# Altium footprint library Diodes_imp.PcbLib: 57 footprints (part 2 of 4)
Each footprint in its own frame and in the unit in brackets; x right, y up, seen from the top. Pads: shape width x height; smd on the part's side, far side on the other; paste and mask are expansions set on the pad; w line width, h text height; cw(c..) or ccw(c..) is an arc to the next point about the centre after c.
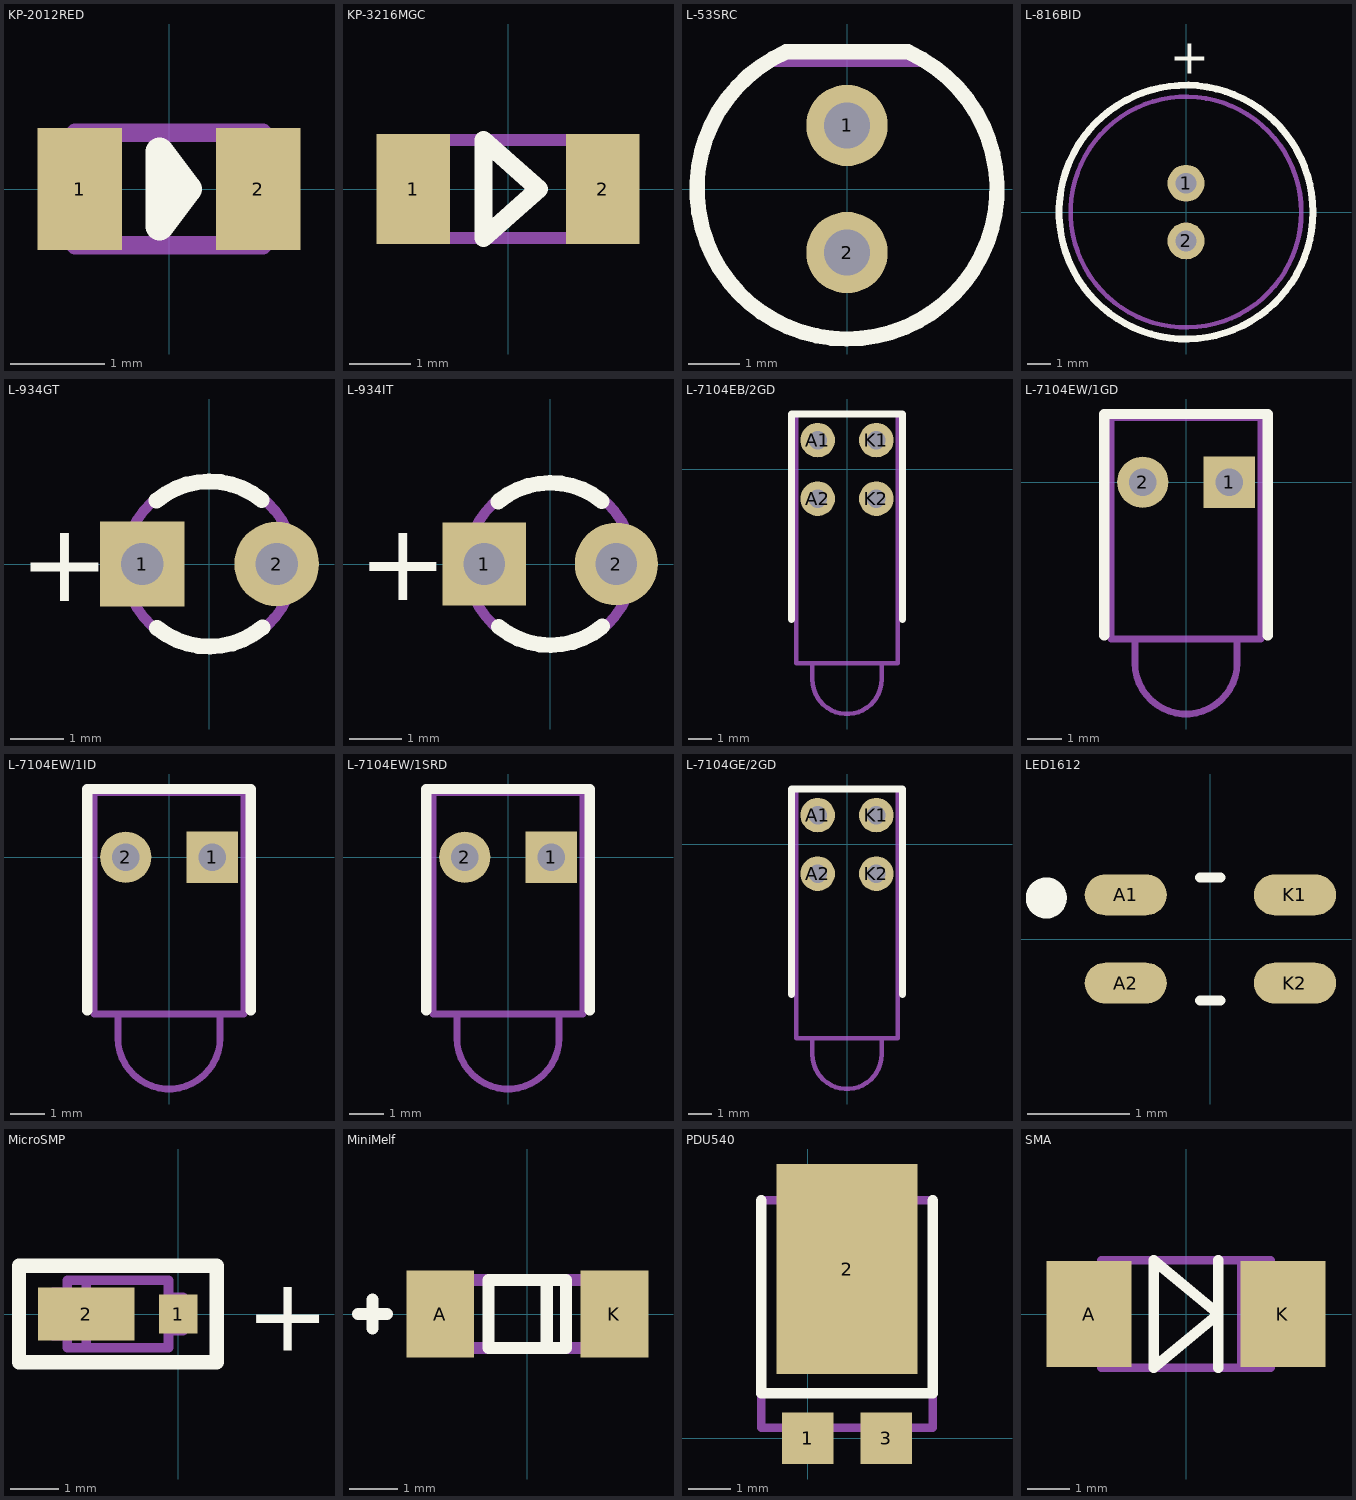
[diagram p1: the footprints below, top view; thin cyan lines are the x and y axes]

## KP-2012RED [mm]
height 1.1
pads (2):
  rect 0.9x1.3 smd: 1(-0.95,0) 2(0.95,0)
Top Overlay:
  lines w0.3: -0.1,-0.4 -0.1,0.4 0.2,0 -0.1,-0.4
Mechanical 1:
  lines w0.2: -1,-0.6 1,-0.6 1,0.6 -1,0.6 -1,-0.6
  text ".Designator" at -0.7,1.1 h1.5
  text "+" at -2.1,-0.4 h1.5
3D body "KP-2012SRC-PRV.stp": height 1, standoff 0, extent -1,-0.625 1,0.625

## KP-3216MGC [mm]
height 1.1
pads (2):
  rect 1.2x1.8 smd: 1(-1.55,0) 2(1.55,0)
Top Overlay:
  lines w0.3: -0.4,-0.8 -0.4,0.8 0.5,0 -0.4,-0.8
Mechanical 1:
  lines w0.2: -1.6,-0.8 -1.6,0.8 1.6,0.8 1.6,-0.8 -1.6,-0.8
  text "+" at -2.7,-0.4 h1.5
  text ".Designator" at -1.1,1.4 h1.5
3D body "KP-3216MGC.stp": height 1, standoff 0, extent -1.6,-0.8 1.6,0.8

## L-53SRC [mm]
height 11
pads (2):
  round 1.6 hole 0.9 unplated: 1(0,1.25) 2(0,-1.25)
Top Overlay:
  lines w0.3: -1.2,2.7 1.2,2.7 ; -1.198,2.696 ccw(c0,0) 1.217,2.687
Mechanical 1:
  lines w0.2: -1.608,2.473 ccw(c0,0) 1.608,2.473 ; -1.608,2.5 1.608,2.5
  text "+" at -0.4,-1.7 h1.5
  text ".Designator" at -3.2,3.55 h1.5
3D body "L-53SRC.stp": height 11.2, standoff -3, extent -2.949,-2.95 2.949,2.5

## L-816BID [mm]
height 16
pads (2):
  round 1.6 hole 0.9 unplated: 1(0,1.25) 2(0,-1.25)
Top Overlay:
  circle w0.3: c0,0 r5.5
  text "+" at -0.7,6 h1.5
Mechanical 1:
  circle w0.2: c0,0 r5
  circle w0.2: c0,0 r5.5
  text ".Designator" at -1.65,2.05 h1.5
  text "+" at -0.4,-1.7 h1.5
3D body "L-816BID.stp": height 16, standoff -3, extent -5.457,-5.489 5.5,5.489

## L-934GT [mm]
height 7.2
pads (2):
  rect 1.6x1.6 hole 0.8: 1(-1.27,0)
  round 1.6 hole 0.8: 2(1.27,0)
Top Overlay:
  lines w0.3: -1,1.2 cw(c0,0) 0.989,1.209 ; -0.989,-1.209 ccw(c0,0) 1,-1.2
  text "+" at -3.6,-0.7 h1.5
Mechanical 1:
  circle w0.2: c0,0 r1.6
  text "+" at -2.9,-0.55 h1.5
  text ".Designator" at -1.6,2.4 h1.5
3D body: height 2.6, standoff -3, extent -1.524,-0.235 -1.026,0.264
3D body: height 2.6, standoff -3, extent 1.016,-0.235 1.514,0.264
3D body: height 5.8, standoff 3.6, extent -1.394,-1.394 1.394,1.4
3D body: height 7.2, standoff 4.4, extent -1.4,-1.4 1.385,1.388
3D body: height 3.6, standoff 2.6, extent -1.594,-1.6 1.594,1.594

## L-934IT [mm]
height 7.2
pads (2):
  rect 1.6x1.6 hole 0.8: 1(-1.27,0)
  round 1.6 hole 0.8: 2(1.27,0)
Top Overlay:
  lines w0.3: -1,1.2 cw(c0,0) 0.989,1.209 ; -0.989,-1.209 ccw(c0,0) 1,-1.2
  text "+" at -3.7,-0.7 h1.5
Mechanical 1:
  circle w0.2: c0,0 r1.6
  text ".Designator" at -1.6,2.4 h1.5
  text "+" at -2.9,-0.55 h1.5
3D body: height 2.6, standoff -3, extent 1.016,-0.235 1.514,0.264
3D body: height 2.6, standoff -3, extent -1.524,-0.235 -1.026,0.264
3D body: height 3.6, standoff 2.6, extent -1.594,-1.6 1.594,1.594
3D body: height 7.2, standoff 4.4, extent -1.4,-1.4 1.385,1.388
3D body: height 5.8, standoff 3.6, extent -1.394,-1.394 1.394,1.4

## L-7104EB/2GD [mm] "Сборка светодиодов"
height 9.65
pads (4):
  round 1.5 hole 0.8: A1(-1.27,1.27) A2(-1.27,-1.27) K1(1.27,1.27) K2(1.27,-1.27)
Top Overlay:
  lines w0.3: -2.4,-6.5 -2.4,2.4 2.4,2.4 2.4,-6.5
Mechanical 1:
  lines w0.2: -1.5,-8.4 -1.5,-9.1 ccw(c0,-9.1) 1.5,-9.1 1.5,-8.4 ; -2.2,-8.4 2.2,-8.4 2.2,2.4 -2.2,2.4 -2.2,-8.4
  text "+" at -1.6,0.8 h1.5
  text "+" at -1.6,-1.7 h1.5
  text ".Designator" at 0.9,-5 h1.5
3D body "L-7104GE-2GD.STEP": height 9.65, standoff -3.68, extent -2.15,-10.67 2.15,2.41

## L-7104EW/1GD [mm]
height 7.3
pads (2):
  rect 1.5x1.5 hole 0.8: 1(1.27,0)
  round 1.5 hole 0.8: 2(-1.27,0)
Top Overlay:
  lines w0.3: -2.4,-4.5 -2.4,2 2.4,2 2.4,-4.5
Mechanical 1:
  lines w0.2: -1.5,-4.6 -1.5,-5.3 ccw(c0,-5.3) 1.5,-5.3 1.5,-4.6 ; -2.2,-4.6 2.2,-4.6 2.2,1.9 -2.2,1.9 -2.2,-4.6
  text ".Designator" at 0.8,-3.7 h1.5
  text "+" at -1.7,-0.4 h1.5
3D body "L-7104EW-1GD.STEP": height 7.3, standoff -3.68, extent -2.15,-6.94 2.15,1.9

## L-7104EW/1ID [mm]
height 7.3
pads (2):
  rect 1.5x1.5 hole 0.8: 1(1.27,0)
  round 1.5 hole 0.8: 2(-1.27,0)
Top Overlay:
  lines w0.3: -2.4,-4.5 -2.4,2 2.4,2 2.4,-4.5
Mechanical 1:
  lines w0.2: -1.5,-4.6 -1.5,-5.3 ccw(c0,-5.3) 1.5,-5.3 1.5,-4.6 ; -2.2,-4.6 2.2,-4.6 2.2,1.9 -2.2,1.9 -2.2,-4.6
  text ".Designator" at 0.8,-3.7 h1.5
  text "+" at -1.7,-0.4 h1.5
3D body "L-7104EW-1ID.STEP": height 7.3, standoff -3.68, extent -2.15,-6.94 2.15,1.9

## L-7104EW/1SRD [mm]
height 7.3
pads (2):
  rect 1.5x1.5 hole 0.8: 1(1.27,0)
  round 1.5 hole 0.8: 2(-1.27,0)
Top Overlay:
  lines w0.3: -2.4,-4.5 -2.4,2 2.4,2 2.4,-4.5
Mechanical 1:
  lines w0.2: -1.5,-4.6 -1.5,-5.3 ccw(c0,-5.3) 1.5,-5.3 1.5,-4.6 ; -2.2,-4.6 2.2,-4.6 2.2,1.9 -2.2,1.9 -2.2,-4.6
  text ".Designator" at 0.8,-3.7 h1.5
  text "+" at -1.7,-0.4 h1.5
3D body "L-7104EW-1ID.STEP": height 7.3, standoff -3.68, extent -2.15,-6.94 2.15,1.9

## L-7104GE/2GD [mm]
height 9.65
pads (4):
  round 1.5 hole 0.8: A1(-1.27,1.27) A2(-1.27,-1.27) K1(1.27,1.27) K2(1.27,-1.27)
Top Overlay:
  lines w0.3: -2.4,-6.5 -2.4,2.4 2.4,2.4 2.4,-6.5
Mechanical 1:
  lines w0.2: -1.5,-8.4 -1.5,-9.1 ccw(c0,-9.1) 1.5,-9.1 1.5,-8.4 ; -2.2,-8.4 2.2,-8.4 2.2,2.4 -2.2,2.4 -2.2,-8.4
  text "+" at -1.6,0.8 h1.5
  text "+" at -1.6,-1.7 h1.5
  text ".Designator" at 0.9,-5 h1.5
3D body "L-7104GE-2GD.STEP": height 9.65, standoff -3.68, extent -2.15,-10.67 2.15,2.41

## LED1612 [mm]
pads (4):
  oval 0.8x0.4 smd: A1(-0.825,0.43) A2(-0.825,-0.43) K1(0.825,0.43) K2(0.825,-0.43)
Top Overlay:
  circle w0.2: c-1.6,0.4 r0.1
  lines w0.1: -0.1,-0.6 0.1,-0.6 ; -0.1,0.6 0.1,0.6
3D body: height 0.65, standoff 0, extent -0.8,-0.65 0.8,0.65

## MicroSMP [mm] "Vishay"
height 0.8
pads (2):
  rect 0.8x0.8 smd: 1(0,0)
  rect 2x1.1 smd: 2(-1.905,0)
Top Overlay:
  lines w0.3: -3.3,-1 -3.3,1 0.8,1 0.8,-1 -3.3,-1
  text "+" at 1.397,-0.762 h1.52
Mechanical 1:
  lines w0.2: -2.3,-0.45 -2.6,-0.45 -2.6,0.45 -2.3,0.45 ; -1.905,-0.7 -1.905,0.7 ; -0.2,-0.35 0.1,-0.35 0.1,0.35 -0.2,0.35 ; -2.3,-0.7 -0.2,-0.7 -0.2,0.7 -2.3,0.7 -2.3,-0.7
  text ".Designator" at -4.75,1.55 h1.5
  text "+" at -1.143,-0.508 h1.52
3D body "MicroSMP.STEP": height 0.73, standoff 0, extent -2.573,-0.7 0.127,0.7

## MiniMelf [mm]
pads (2):
  rect 1.4x1.8 smd: A(-1.8,0) K(1.8,0)
Top Overlay:
  lines w0.25: 0.4,-0.7 0.4,0.7 ; -0.8,-0.7 0.8,-0.7 0.8,0.7 -0.8,0.7 -0.8,-0.7
  lines w0.254: -3.5,0 -2.9,0 ; -3.2,-0.3 -3.2,0.3
Mechanical 1:
  lines w0.25: -1.4,-0.7 -1.4,0.7 ; 0.8,-0.7 0.8,0.7 ; 1.4,-0.7 1.4,0.7 ; -1.7,-0.7 1.7,-0.7 1.7,0.7 -1.7,0.7 -1.7,-0.7
3D body "MiniMelf.STEP": height 1.5, standoff 0, extent -1.75,-0.75 1.75,0.75

## PDU540 [mm]
height 1.15
pads (3):
  rect 1.2x1.2 smd: 1(0,0) 3(1.84,0)
  rect 3.3x4.9 smd: 2(0.92,3.95)
Top Overlay:
  lines w0.25: -1.08,5.55 -1.08,1.05 2.92,1.05 2.92,5.55
Mechanical 1:
  lines w0.2: -0.43,0.25 -0.43,-0.4 0.42,-0.4 0.42,0.25 ; 0.02,5.55 0.02,6.2 1.82,6.2 1.82,5.55 ; 1.41,0.25 1.41,-0.4 2.26,-0.4 2.26,0.25 ; -1.08,0.25 -1.08,5.55 2.92,5.55 2.92,0.25 -1.08,0.25
  text ".Designator" at 0.702,4.728 h1.5
  text "3" at 2.007,0.983 h1.5
  text "1" at -0.593,0.983 h1.5
  text "2" at 0.707,2.683 h1.5
3D body "PDU540.stp": height 1.15, standoff 0, extent -1.08,-0.4 2.92,6.2

## SMA [mm]
height 2.2
pads (2):
  rect 2x2.5 smd: A(-2.286,0) K(2.286,0)
Top Overlay:
  lines w0.25: 0.762,-1.27 0.762,1.27 ; -0.762,-1.27 0.762,0 -0.762,1.27 -0.762,-1.27
Mechanical 1:
  lines w0.2: -2,-0.8 -2.7,-0.8 -2.7,0.8 -2,0.8 ; 1.3,-1.27 1.3,1.27 ; 2,-0.8 2.7,-0.8 2.7,0.8 2,0.8 ; -2,-1.27 2,-1.27 2,1.27 -2,1.27 -2,-1.27
  text "+" at -1.338,0.108 h1.5
  text ".Designator" at -0.448,2.278 h1.5
3D body "SMA.stp": height 2.2, standoff 0, extent -2.8,-1.5 2.8,1.5